# EAGLE library part BM24-20DS/2-0.35V(53) (library NM_Visual_Cortex_12-10-18)
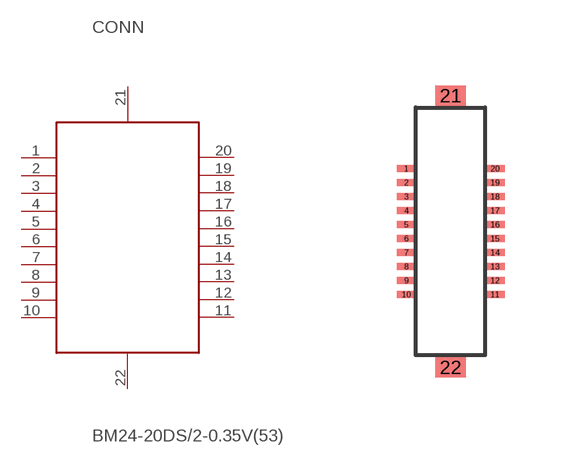
[diagram p1: symbol with the pads of BM24-20DS/2-0.35V(53); footprint BM24-20DS/2-0.35V(53)]

Designator prefix CONN

## BM24-20DS/2-0.35V(53) (MANUFACTURER: hirose; MPN: BM24-20DS/2-0.35V(51); PITCH: 0.35 mm)  [BM24-20DS/2-0.35V(53)]
1  P$1
2  P$2
3  P$3
4  P$4
5  P$5
6  P$6
7  P$7
8  P$8
9  P$9
10  P$10
11  P$11
12  P$12
13  P$13
14  P$14
15  P$15
16  P$16
17  P$17
18  P$18
19  P$19
20  P$20
21  P$21
22  P$22

## Footprint BM24-20DS/2-0.35V(53) (pad centres in mm)
smd 0.48 x 0.18: 1 -1.11,1.57; 2 -1.11,1.22; 3 -1.11,0.87; 4 -1.11,0.52; 5 -1.11,0.17; 6 -1.11,-0.18; 7 -1.11,-0.53; 8 -1.11,-0.88; 9 -1.11,-1.23; 10 -1.11,-1.58; 11 1.11,-1.58; 12 1.11,-1.23; 13 1.11,-0.88; 14 1.11,-0.53; 15 1.11,-0.18; 16 1.11,0.17; 17 1.11,0.52; 18 1.11,0.87; 19 1.11,1.22; 20 1.11,1.57
smd 0.76 x 0.5: 21 0,3.4; 22 0,-3.4